# Altium integrated library TI Power Management Step-Down Regulator.IntLib: 559 symbols (part 23 of 35)
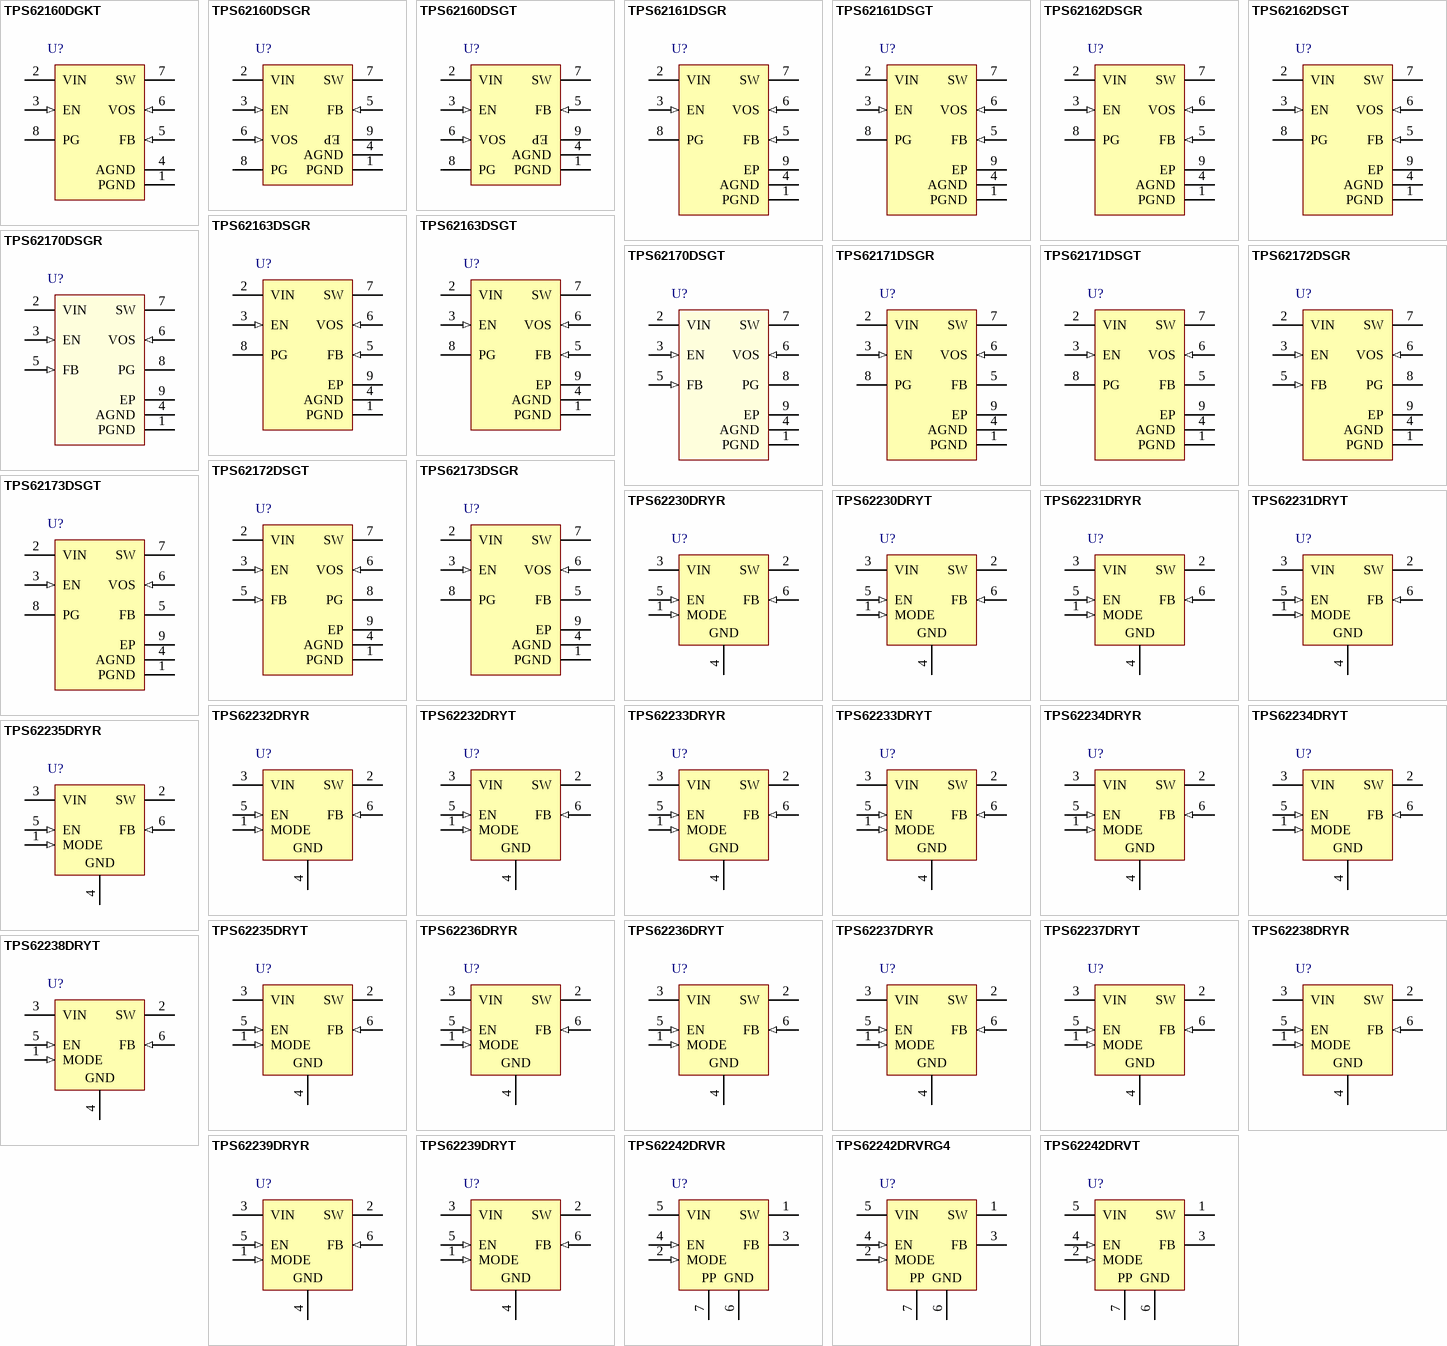
[diagram p41: symbols TPS62160DGKT to TPS62242DRVT]

## TPS62171DSGR
designator U?
Buck Step Down Regulator with 3 to 17 V Input and 1.8 V Output, -40 to 85 degC, 8-Pin WSON (DSG), Green (RoHS & no Sb/Br); Manufacturer: Texas Instruments; PartNumber: TPS62171DSGR; Duty Cycle(Max)(%): 100; Iout(Max)(A): 0.5; Iq(Typ)(mA): 0.017; Preset Vout(V): 1.8; Rating: Catalog; Regulated Outputs(#): 1; SubFamily: Step-Down Regulator; Switch Current Limit(Typ)(A): 1.05; Synchronous Rectification: TRUE; Vin(Max)(V): 17; Vin(Min)(V): 3; DatasheetVersion: SLVSAT8A; PackageVersion: revB, Oct-2010; PackageReference: DSG8-1600X900TP; PackageDescription: 8-Pin Plastic Small Outline No-Lead, 2 x 2 x 0.8 mm Body, 0.5 mm Pitch, Exposed Pad; Supplier 1: Digi-Key; Supplier Part Number 1: TPS62171DSGR-ND; Supplier 2: Newark; Supplier Part Number 2: 74T5564; Supplier 3: Mouser; Supplier Part Number 3: 595-TPS62171DSGR; Eco-Plan: Green (RoHS & no Sb/Br); Topology: Buck; Vout(Max)(V): 1.8; Vout(Min)(V): 1.8; Mounting Technology: Surface Mount; Code_JEDEC: MO-229; ComponentLink1Description: Datasheet; ComponentLink1URL: http://www.ti.com/general/docs/lit/getliterature.tsp?genericPartNumber=TPS62171&fileType=pdf; ComponentLink2Description: Package Specification; ComponentLink2URL: http://www.ti.com/litv/pdf/mpds308a; ComponentLink3Description: URL Link1; ComponentLink3URL: Samples URL:http://www.ti.com/product/tps62171#samples
footprint DSG8-1600X900TP (SON, 8-Leads, Body 2x2mm, Pitch 0.5mm, Thermal Pad 1.6x0.9mm, TI Recommended)
pins: 1 PGND (power) "Power ground", 2 VIN (power) "Supply voltage", 3 EN (in) "Enable input (High = enabled, Low = disabled)", 4 AGND (power) "Analog Ground", 5 FB "Voltage feedback of adjustable version. Connect resistive voltage divider to this pin. It is recommended to connect FB to AGND on fixed output voltage versions for improved thermal performance.", 6 VOS (in) "Output voltage sense pin and connection for the control loop circuitry.", 7 SW (power) "Switch node, which is connected to the internal MOSFET switches. Connect inductor between SW and output capacitor.", 8 PG (hiz) "Output power good (High = VOUT ready, Low = VOUT below nominal regulation) ; open drain (requires pull-up resistor; goes high impedance, when device is switched off)", 9 EP (power) "Must be connected to AGND. Must be soldered to achieve appropriate power dissipation and mechanical reliability."

## TPS62171DSGT
designator U?
Buck Step Down Regulator with 3 to 17 V Input and 1.8 V Output, -40 to 85 degC, 8-Pin WSON (DSG), Green (RoHS & no Sb/Br); Manufacturer: Texas Instruments; PartNumber: TPS62171DSGT; Duty Cycle(Max)(%): 100; Iout(Max)(A): 0.5; Iq(Typ)(mA): 0.017; Preset Vout(V): 1.8; Rating: Catalog; Regulated Outputs(#): 1; SubFamily: Step-Down Regulator; Switch Current Limit(Typ)(A): 1.05; Synchronous Rectification: TRUE; Vin(Max)(V): 17; Vin(Min)(V): 3; DatasheetVersion: SLVSAT8A; PackageVersion: revB, Oct-2010; PackageReference: DSG8-1600X900TP; PackageDescription: 8-Pin Plastic Small Outline No-Lead, 2 x 2 x 0.8 mm Body, 0.5 mm Pitch, Exposed Pad; Supplier 1: Digi-Key; Supplier Part Number 1: 296-29878-2-ND; Supplier 2: Digi-Key; Supplier Part Number 2: 296-29878-1-ND; Supplier 3: Digi-Key; Supplier Part Number 3: 296-29878-6-ND; Supplier 4: Newark; Supplier Part Number 4: 74T5565; Supplier 5: Mouser; Supplier Part Number 5: 595-TPS62171DSGT; Eco-Plan: Green (RoHS & no Sb/Br); Topology: Buck; Vout(Max)(V): 1.8; Vout(Min)(V): 1.8; Mounting Technology: Surface Mount; Code_JEDEC: MO-229; ComponentLink1Description: Datasheet; ComponentLink1URL: http://www.ti.com/general/docs/lit/getliterature.tsp?genericPartNumber=TPS62171&fileType=pdf; ComponentLink2Description: Package Specification; ComponentLink2URL: http://www.ti.com/litv/pdf/mpds308a; ComponentLink3Description: URL Link1; ComponentLink3URL: Samples URL:http://www.ti.com/product/tps54611#samples
footprint DSG8-1600X900TP (SON, 8-Leads, Body 2x2mm, Pitch 0.5mm, Thermal Pad 1.6x0.9mm, TI Recommended)
pins: 1 PGND (power) "Power ground", 2 VIN (power) "Supply voltage", 3 EN (in) "Enable input (High = enabled, Low = disabled)", 4 AGND (power) "Analog Ground", 5 FB "Voltage feedback of adjustable version. Connect resistive voltage divider to this pin. It is recommended to connect FB to AGND on fixed output voltage versions for improved thermal performance.", 6 VOS (in) "Output voltage sense pin and connection for the control loop circuitry.", 7 SW (power) "Switch node, which is connected to the internal MOSFET switches. Connect inductor between SW and output capacitor.", 8 PG (hiz) "Output power good (High = VOUT ready, Low = VOUT below nominal regulation) ; open drain (requires pull-up resistor; goes high impedance, when device is switched off)", 9 EP (power) "Must be connected to AGND. Must be soldered to achieve appropriate power dissipation and mechanical reliability."

## TPS62172DSGR
designator U?
Buck Step Down Regulator with 3 to 17 V Input and 3.3 V Output, -40 to 85 degC, 8-Pin WSON (DSG), Green (RoHS & no Sb/Br); Manufacturer: Texas Instruments; PartNumber: TPS62172DSGR; Duty Cycle(Max)(%): 100; Iout(Max)(A): 0.5; Iq(Typ)(mA): 0.017; Preset Vout(V): 3.3; Rating: Catalog; Regulated Outputs(#): 1; SubFamily: Step-Down Regulator; Switch Current Limit(Typ)(A): 1.05; Synchronous Rectification: TRUE; Vin(Max)(V): 17; Vin(Min)(V): 3; DatasheetVersion: SLVSAT8A; PackageVersion: revB, Oct-2010; PackageReference: DSG8-1600X900TP; PackageDescription: 8-Pin Plastic Small Outline No-Lead, 2 x 2 x 0.8 mm Body, 0.5 mm Pitch, Exposed Pad; Supplier 1: Digi-Key; Supplier Part Number 1: TPS62172DSGR-ND; Supplier 2: Newark; Supplier Part Number 2: 74T5566; Supplier 3: Mouser; Supplier Part Number 3: 595-TPS62172DSGR; Eco-Plan: Green (RoHS & no Sb/Br); Topology: Buck; Vout(Max)(V): 3.3; Vout(Min)(V): 3.3; Mounting Technology: Surface Mount; Code_JEDEC: MO-229; ComponentLink1Description: Datasheet; ComponentLink1URL: http://www.ti.com/general/docs/lit/getliterature.tsp?genericPartNumber=TPS62172&fileType=pdf; ComponentLink2Description: Package Specification; ComponentLink2URL: http://www.ti.com/litv/pdf/mpds308a; ComponentLink3Description: URL Link1; ComponentLink3URL: Samples URL:http://www.ti.com/product/tps62172#samples
footprint DSG8-1600X900TP (SON, 8-Leads, Body 2x2mm, Pitch 0.5mm, Thermal Pad 1.6x0.9mm, TI Recommended)
pins: 1 PGND (power) "Power ground", 2 VIN (power) "Supply voltage", 3 EN (in) "Enable input (High = enabled, Low = disabled)", 4 AGND (power) "Analog Ground", 5 FB (in) "Voltage feedback of adjustable version. Connect resistive voltage divider to this pin. It is recommended to connect FB to AGND on fixed output voltage versions for improved thermal performance.", 6 VOS (in) "Output voltage sense pin and connection for the control loop circuitry.", 7 SW (power) "Switch node, which is connected to the internal MOSFET switches. Connect inductor between SW and output capacitor.", 8 PG (hiz) "Output power good (High = VOUT ready, Low = VOUT below nominal regulation) ; open drain (requires pull-up resistor; goes high impedance, when device is switched off)", 9 EP (power) "Must be connected to AGND. Must be soldered to achieve appropriate power dissipation and mechanical reliability."

## TPS62172DSGT
designator U?
Buck Step Down Regulator with 3 to 17 V Input and 3.3 V Output, -40 to 85 degC, 8-Pin WSON (DSG), Green (RoHS & no Sb/Br); Manufacturer: Texas Instruments; PartNumber: TPS62172DSGT; Duty Cycle(Max)(%): 100; Iout(Max)(A): 0.5; Iq(Typ)(mA): 0.017; Preset Vout(V): 3.3; Rating: Catalog; Regulated Outputs(#): 1; SubFamily: Step-Down Regulator; Switch Current Limit(Typ)(A): 1.05; Synchronous Rectification: TRUE; Vin(Max)(V): 17; Vin(Min)(V): 3; DatasheetVersion: SLVSAT8A; PackageVersion: revB, Oct-2010; PackageReference: DSG8-1600X900TP; PackageDescription: 8-Pin Plastic Small Outline No-Lead, 2 x 2 x 0.8 mm Body, 0.5 mm Pitch, Exposed Pad; Supplier 1: Digi-Key; Supplier Part Number 1: 296-29879-2-ND; Supplier 2: Digi-Key; Supplier Part Number 2: 296-29879-1-ND; Supplier 3: Digi-Key; Supplier Part Number 3: 296-29879-6-ND; Supplier 4: Newark; Supplier Part Number 4: 74T5567; Supplier 5: Mouser; Supplier Part Number 5: 595-TPS62172DSGT; Eco-Plan: Green (RoHS & no Sb/Br); Topology: Buck; Vout(Max)(V): 3.3; Vout(Min)(V): 3.3; Mounting Technology: Surface Mount; Code_JEDEC: MO-229; ComponentLink1Description: Datasheet; ComponentLink1URL: http://www.ti.com/general/docs/lit/getliterature.tsp?genericPartNumber=TPS62172&fileType=pdf; ComponentLink2Description: Package Specification; ComponentLink2URL: http://www.ti.com/litv/pdf/mpds308a; ComponentLink3Description: URL Link1; ComponentLink3URL: Samples URL:http://www.ti.com/product/tps54611#samples
footprint DSG8-1600X900TP (SON, 8-Leads, Body 2x2mm, Pitch 0.5mm, Thermal Pad 1.6x0.9mm, TI Recommended)
pins: 1 PGND (power) "Power ground", 2 VIN (power) "Supply voltage", 3 EN (in) "Enable input (High = enabled, Low = disabled)", 4 AGND (power) "Analog Ground", 5 FB (in) "Voltage feedback of adjustable version. Connect resistive voltage divider to this pin. It is recommended to connect FB to AGND on fixed output voltage versions for improved thermal performance.", 6 VOS (in) "Output voltage sense pin and connection for the control loop circuitry.", 7 SW (power) "Switch node, which is connected to the internal MOSFET switches. Connect inductor between SW and output capacitor.", 8 PG (hiz) "Output power good (High = VOUT ready, Low = VOUT below nominal regulation) ; open drain (requires pull-up resistor; goes high impedance, when device is switched off)", 9 EP (power) "Must be connected to AGND. Must be soldered to achieve appropriate power dissipation and mechanical reliability."

## TPS62173DSGR
designator U?
Buck Step Down Regulator with 3 to 17 V Input and 5 V Output, -40 to 85 degC, 8-Pin WSON (DSG), Green (RoHS & no Sb/Br); Manufacturer: Texas Instruments; PartNumber: TPS62173DSGR; Duty Cycle(Max)(%): 100; Iout(Max)(A): 0.5; Iq(Typ)(mA): 0.017; Preset Vout(V): 5; Rating: Catalog; Regulated Outputs(#): 1; SubFamily: Step-Down Regulator; Switch Current Limit(Typ)(A): 1.05; Synchronous Rectification: TRUE; Vin(Max)(V): 17; Vin(Min)(V): 3; DatasheetVersion: SLVSAT8A; PackageVersion: revB, Oct-2010; PackageReference: DSG8-1600X900TP; PackageDescription: 8-Pin Plastic Small Outline No-Lead, 2 x 2 x 0.8 mm Body, 0.5 mm Pitch, Exposed Pad; Supplier 1: Digi-Key; Supplier Part Number 1: TPS62173DSGR-ND; Supplier 2: Newark; Supplier Part Number 2: 74T5568; Supplier 3: Mouser; Supplier Part Number 3: 595-TPS62173DSGR; Eco-Plan: Green (RoHS & no Sb/Br); Topology: Buck; Vout(Max)(V): 5; Vout(Min)(V): 5; Mounting Technology: Surface Mount; Code_JEDEC: MO-229; ComponentLink1Description: Datasheet; ComponentLink1URL: http://www.ti.com/general/docs/lit/getliterature.tsp?genericPartNumber=TPS62173&fileType=pdf; ComponentLink2Description: Package Specification; ComponentLink2URL: http://www.ti.com/litv/pdf/mpds308a; ComponentLink3Description: URL Link1; ComponentLink3URL: Samples URL:http://www.ti.com/product/tps62173#samples
footprint DSG8-1600X900TP (SON, 8-Leads, Body 2x2mm, Pitch 0.5mm, Thermal Pad 1.6x0.9mm, TI Recommended)
pins: 1 PGND (power) "Power ground", 2 VIN (power) "Supply voltage", 3 EN (in) "Enable input (High = enabled, Low = disabled)", 4 AGND (power) "Analog Ground", 5 FB "Voltage feedback of adjustable version. Connect resistive voltage divider to this pin. It is recommended to connect FB to AGND on fixed output voltage versions for improved thermal performance.", 6 VOS (in) "Output voltage sense pin and connection for the control loop circuitry.", 7 SW (power) "Switch node, which is connected to the internal MOSFET switches. Connect inductor between SW and output capacitor.", 8 PG (hiz) "Output power good (High = VOUT ready, Low = VOUT below nominal regulation) ; open drain (requires pull-up resistor; goes high impedance, when device is switched off)", 9 EP (power) "Must be connected to AGND. Must be soldered to achieve appropriate power dissipation and mechanical reliability."

## TPS62173DSGT
designator U?
Buck Step Down Regulator with 3 to 17 V Input and 5 V Output, -40 to 85 degC, 8-Pin WSON (DSG), Green (RoHS & no Sb/Br); Manufacturer: Texas Instruments; PartNumber: TPS62173DSGT; Duty Cycle(Max)(%): 100; Iout(Max)(A): 0.5; Iq(Typ)(mA): 0.017; Preset Vout(V): 5; Rating: Catalog; Regulated Outputs(#): 1; SubFamily: Step-Down Regulator; Switch Current Limit(Typ)(A): 1.05; Synchronous Rectification: TRUE; Vin(Max)(V): 17; Vin(Min)(V): 3; DatasheetVersion: SLVSAT8A; PackageVersion: revB, Oct-2010; PackageReference: DSG8-1600X900TP; PackageDescription: 8-Pin Plastic Small Outline No-Lead, 2 x 2 x 0.8 mm Body, 0.5 mm Pitch, Exposed Pad; Supplier 1: Digi-Key; Supplier Part Number 1: 296-29866-2-ND; Supplier 2: Digi-Key; Supplier Part Number 2: 296-29866-1-ND; Supplier 3: Digi-Key; Supplier Part Number 3: 296-29866-6-ND; Supplier 4: Newark; Supplier Part Number 4: 74T5569; Supplier 5: Mouser; Supplier Part Number 5: 595-TPS62173DSGT; Eco-Plan: Green (RoHS & no Sb/Br); Topology: Buck; Vout(Max)(V): 5; Vout(Min)(V): 5; Mounting Technology: Surface Mount; Code_JEDEC: MO-229; ComponentLink1Description: Datasheet; ComponentLink1URL: http://www.ti.com/general/docs/lit/getliterature.tsp?genericPartNumber=TPS62173&fileType=pdf; ComponentLink2Description: Package Specification; ComponentLink2URL: http://www.ti.com/litv/pdf/mpds308a; ComponentLink3Description: URL Link1; ComponentLink3URL: Samples URL:http://www.ti.com/product/tps54611#samples
footprint DSG8-1600X900TP (SON, 8-Leads, Body 2x2mm, Pitch 0.5mm, Thermal Pad 1.6x0.9mm, TI Recommended)
pins: 1 PGND (power) "Power ground", 2 VIN (power) "Supply voltage", 3 EN (in) "Enable input (High = enabled, Low = disabled)", 4 AGND (power) "Analog Ground", 5 FB "Voltage feedback of adjustable version. Connect resistive voltage divider to this pin. It is recommended to connect FB to AGND on fixed output voltage versions for improved thermal performance.", 6 VOS (in) "Output voltage sense pin and connection for the control loop circuitry.", 7 SW (power) "Switch node, which is connected to the internal MOSFET switches. Connect inductor between SW and output capacitor.", 8 PG (hiz) "Output power good (High = VOUT ready, Low = VOUT below nominal regulation) ; open drain (requires pull-up resistor; goes high impedance, when device is switched off)", 9 EP (power) "Must be connected to AGND. Must be soldered to achieve appropriate power dissipation and mechanical reliability."

## TPS62230DRYR
designator U?
Buck Step Down Regulator with 2.05 to 6 V Input and 2.5 V Output, -40 to 85 degC, 6-Pin SON (DRY), Green (RoHS & no Sb/Br); Manufacturer: Texas Instruments; PartNumber: TPS62230DRYR; Duty Cycle(Max)(%): 100; Iout(Max)(A): 0.5; Iq(Typ)(mA): 0.022; Preset Vout(V): 2.5; Rating: Catalog; Regulated Outputs(#): 1; SubFamily: Step-Down Regulator; Switch Current Limit(Typ)(A): 0.84; Synchronous Rectification: TRUE; Vin(Max)(V): 6; Vin(Min)(V): 2.05; DatasheetVersion: SLVS941E; PackageVersion: revF, Dec-2011; PackageReference: DRY6; PackageDescription: 6-Pin Plastic Small Outline No-Lead, 1 x 1.45 x 0.6 mm Body, 0.5 mm Pitch; Supplier 1: Digi-Key; Supplier Part Number 1: TPS62230DRYR-ND; Supplier 2: Newark; Supplier Part Number 2: 09R6675; Supplier 3: Mouser; Supplier Part Number 3: 595-TPS62230DRYR; Eco-Plan: Green (RoHS & no Sb/Br); Topology: Buck; Vout(Max)(V): 2.5; Vout(Min)(V): 2.5; Mounting Technology: Surface Mount; ComponentLink1Description: Datasheet; ComponentLink1URL: http://www.ti.com/general/docs/lit/getliterature.tsp?genericPartNumber=TPS62230&fileType=pdf; ComponentLink2Description: Package Specification; ComponentLink2URL: http://www.ti.com/litv/pdf/mpds221e; ComponentLink3Description: URL Link1; ComponentLink3URL: Samples URL:http://www.ti.com/product/tps62230#samples
footprint DRY6 (PSON, 6-Leads, Body 1x1.45mm, Pitch 0.5mm, TI Recommended)
pins: 1 MODE (in) "MODE pin = high forces the device to operate in PWM mode. Mode = low enables the Power Save Mode with automatic transition from PFM (Pulse frequency mode) to PWM (pulse width modulation) mode.", 2 SW (power) "This is the switch pin and is connected to the internal MOSFET switches. Connect the inductor to this terminal", 3 VIN (power) "VIN power supply pin.", 4 GND (power), 5 EN (in) "This is the enable pin of the device. Pulling this pin to low forces the device into shutdown mode. Pulling this pin to high enables the device. This pin must be terminated.", 6 FB (in) "Feedback Pin for the internal regulation loop. Connect this pin directly to the output capacitor."

## TPS62230DRYT
designator U?
Buck Step Down Regulator with 2.05 to 6 V Input and 2.5 V Output, -40 to 85 degC, 6-Pin SON (DRY), Green (RoHS & no Sb/Br); Manufacturer: Texas Instruments; PartNumber: TPS62230DRYT; Duty Cycle(Max)(%): 100; Iout(Max)(A): 0.5; Iq(Typ)(mA): 0.022; Preset Vout(V): 2.5; Rating: Catalog; Regulated Outputs(#): 1; SubFamily: Step-Down Regulator; Switch Current Limit(Typ)(A): 0.84; Synchronous Rectification: TRUE; Vin(Max)(V): 6; Vin(Min)(V): 2.05; DatasheetVersion: SLVS941E; PackageVersion: revF, Dec-2011; PackageReference: DRY6; PackageDescription: 6-Pin Plastic Small Outline No-Lead, 1 x 1.45 x 0.6 mm Body, 0.5 mm Pitch; Supplier 1: Digi-Key; Supplier Part Number 1: 296-24484-2-ND; Supplier 2: Digi-Key; Supplier Part Number 2: 296-24484-1-ND; Supplier 3: Digi-Key; Supplier Part Number 3: 296-24484-6-ND; Supplier 4: Farnell; Supplier Part Number 4: 1735596; Supplier 5: Newark; Supplier Part Number 5: 07R8107; Supplier 6: Mouser; Supplier Part Number 6: 595-TPS62230DRYT; Eco-Plan: Green (RoHS & no Sb/Br); Topology: Buck; Vout(Max)(V): 2.5; Vout(Min)(V): 2.5; Mounting Technology: Surface Mount; ComponentLink1Description: Datasheet; ComponentLink1URL: http://www.ti.com/general/docs/lit/getliterature.tsp?genericPartNumber=TPS62230&fileType=pdf; ComponentLink2Description: Package Specification; ComponentLink2URL: http://www.ti.com/litv/pdf/mpds221e; ComponentLink3Description: URL Link1; ComponentLink3URL: Samples URL:http://www.ti.com/product/tps62230#samples
footprint DRY6 (PSON, 6-Leads, Body 1x1.45mm, Pitch 0.5mm, TI Recommended)
pins: 1 MODE (in) "MODE pin = high forces the device to operate in PWM mode. Mode = low enables the Power Save Mode with automatic transition from PFM (Pulse frequency mode) to PWM (pulse width modulation) mode.", 2 SW (power) "This is the switch pin and is connected to the internal MOSFET switches. Connect the inductor to this terminal", 3 VIN (power) "VIN power supply pin.", 4 GND (power), 5 EN (in) "This is the enable pin of the device. Pulling this pin to low forces the device into shutdown mode. Pulling this pin to high enables the device. This pin must be terminated.", 6 FB (in) "Feedback Pin for the internal regulation loop. Connect this pin directly to the output capacitor."

## TPS62231DRYR
designator U?
Buck Step Down Regulator with 2.05 to 6 V Input and 1.8 V Output, -40 to 85 degC, 6-Pin SON (DRY), Green (RoHS & no Sb/Br); Manufacturer: Texas Instruments; PartNumber: TPS62231DRYR; Duty Cycle(Max)(%): 100; Iout(Max)(A): 0.5; Iq(Typ)(mA): 0.022; Preset Vout(V): 1.8; Rating: Catalog; Regulated Outputs(#): 1; SubFamily: Step-Down Regulator; Switch Current Limit(Typ)(A): 0.84; Synchronous Rectification: TRUE; Vin(Max)(V): 6; Vin(Min)(V): 2.05; DatasheetVersion: SLVS941E; PackageVersion: revF, Dec-2011; PackageReference: DRY6; PackageDescription: 6-Pin Plastic Small Outline No-Lead, 1 x 1.45 x 0.6 mm Body, 0.5 mm Pitch; Supplier 1: Digi-Key; Supplier Part Number 1: TPS62231DRYR-ND; Supplier 2: Newark; Supplier Part Number 2: 09R6676; Supplier 3: Mouser; Supplier Part Number 3: 595-TPS62231DRYR; Eco-Plan: Green (RoHS & no Sb/Br); Topology: Buck; Vout(Max)(V): 1.8; Vout(Min)(V): 1.8; Mounting Technology: Surface Mount; ComponentLink1Description: Datasheet; ComponentLink1URL: http://www.ti.com/general/docs/lit/getliterature.tsp?genericPartNumber=TPS62231&fileType=pdf; ComponentLink2Description: Package Specification; ComponentLink2URL: http://www.ti.com/litv/pdf/mpds221e; ComponentLink3Description: URL Link1; ComponentLink3URL: Samples URL:http://www.ti.com/product/tps62231#samples
footprint DRY6 (PSON, 6-Leads, Body 1x1.45mm, Pitch 0.5mm, TI Recommended)
pins: 1 MODE (in) "MODE pin = high forces the device to operate in PWM mode. Mode = low enables the Power Save Mode with automatic transition from PFM (Pulse frequency mode) to PWM (pulse width modulation) mode.", 2 SW (power) "This is the switch pin and is connected to the internal MOSFET switches. Connect the inductor to this terminal.", 3 VIN (power) "VIN power supply pin.", 4 GND (power) "GND supply pin", 5 EN (in) "This is the enable pin of the device. Pulling this pin to low forces the device into shutdown mode. Pulling this pin to high enables the device. This pin must be terminated.", 6 FB (in) "Feedback Pin for the internal regulation loop. Connect this pin directly to the output capacitor."

## TPS62231DRYT
designator U?
Buck Step Down Regulator with 2.05 to 6 V Input and 1.8 V Output, -40 to 85 degC, 6-Pin SON (DRY), Green (RoHS & no Sb/Br); Manufacturer: Texas Instruments; PartNumber: TPS62231DRYT; Duty Cycle(Max)(%): 100; Iout(Max)(A): 0.5; Iq(Typ)(mA): 0.022; Preset Vout(V): 1.8; Rating: Catalog; Regulated Outputs(#): 1; SubFamily: Step-Down Regulator; Switch Current Limit(Typ)(A): 0.84; Synchronous Rectification: TRUE; Vin(Max)(V): 6; Vin(Min)(V): 2.05; DatasheetVersion: SLVS941E; PackageVersion: revF, Dec-2011; PackageReference: DRY6; PackageDescription: 6-Pin Plastic Small Outline No-Lead, 1 x 1.45 x 0.6 mm Body, 0.5 mm Pitch; Supplier 1: Digi-Key; Supplier Part Number 1: 296-24485-2-ND; Supplier 2: Digi-Key; Supplier Part Number 2: 296-24485-1-ND; Supplier 3: Digi-Key; Supplier Part Number 3: 296-24485-6-ND; Supplier 4: Farnell; Supplier Part Number 4: 1735598; Supplier 5: Newark; Supplier Part Number 5: 07R8108; Supplier 6: Mouser; Supplier Part Number 6: 595-TPS62231DRYT; Eco-Plan: Green (RoHS & no Sb/Br); Topology: Buck; Vout(Max)(V): 1.8; Vout(Min)(V): 1.8; Mounting Technology: Surface Mount; ComponentLink1Description: Datasheet; ComponentLink1URL: http://www.ti.com/general/docs/lit/getliterature.tsp?genericPartNumber=TPS62231&fileType=pdf; ComponentLink2Description: Package Specification; ComponentLink2URL: http://www.ti.com/litv/pdf/mpds221e; ComponentLink3Description: URL Link1; ComponentLink3URL: Samples URL:http://www.ti.com/product/tps62231#samples
footprint DRY6 (PSON, 6-Leads, Body 1x1.45mm, Pitch 0.5mm, TI Recommended)
pins: 1 MODE (in) "MODE pin = high forces the device to operate in PWM mode. Mode = low enables the Power Save Mode with automatic transition from PFM (Pulse frequency mode) to PWM (pulse width modulation) mode.", 2 SW (power) "This is the switch pin and is connected to the internal MOSFET switches. Connect the inductor to this terminal.", 3 VIN (power) "VIN power supply pin.", 4 GND (power) "GND supply pin", 5 EN (in) "This is the enable pin of the device. Pulling this pin to low forces the device into shutdown mode. Pulling this pin to high enables the device. This pin must be terminated.", 6 FB (in) "Feedback Pin for the internal regulation loop. Connect this pin directly to the output capacitor."

## TPS62232DRYR
designator U?
Buck Step Down Regulator with 2.05 to 6 V Input and 1.2 V Output, -40 to 85 degC, 6-Pin SON (DRY), Green (RoHS & no Sb/Br); Manufacturer: Texas Instruments; PartNumber: TPS62232DRYR; Duty Cycle(Max)(%): 100; Iout(Max)(A): 0.5; Iq(Typ)(mA): 0.022; Preset Vout(V): 1.2; Rating: Catalog; Regulated Outputs(#): 1; SubFamily: Step-Down Regulator; Switch Current Limit(Typ)(A): 0.84; Synchronous Rectification: TRUE; Vin(Max)(V): 6; Vin(Min)(V): 2.05; DatasheetVersion: SLVS941E; PackageVersion: revF, Dec-2011; PackageReference: DRY6; PackageDescription: 6-Pin Plastic Small Outline No-Lead, 1 x 1.45 x 0.6 mm Body, 0.5 mm Pitch; Supplier 1: Digi-Key; Supplier Part Number 1: TPS62232DRYR-ND; Supplier 2: Newark; Supplier Part Number 2: 09R6677; Supplier 3: Mouser; Supplier Part Number 3: 595-TPS62232DRYR; Eco-Plan: Green (RoHS & no Sb/Br); Topology: Buck; Vout(Max)(V): 1.2; Vout(Min)(V): 1.2; Mounting Technology: Surface Mount; ComponentLink1Description: Datasheet; ComponentLink1URL: http://www.ti.com/general/docs/lit/getliterature.tsp?genericPartNumber=TPS62232&fileType=pdf; ComponentLink2Description: Package Specification; ComponentLink2URL: http://www.ti.com/litv/pdf/mpds221e; ComponentLink3Description: URL Link1; ComponentLink3URL: Samples URL:http://www.ti.com/product/tps62232#samples
footprint DRY6 (PSON, 6-Leads, Body 1x1.45mm, Pitch 0.5mm, TI Recommended)
pins: 1 MODE (in) "MODE pin = high forces the device to operate in PWM mode. Mode = low enables the Power Save Mode with automatic transition from PFM (Pulse frequency mode) to PWM (pulse width modulation) mode.", 2 SW (power) "This is the switch pin and is connected to the internal MOSFET switches. Connect the inductor to this terminal", 3 VIN (power) "VIN power supply pin.", 4 GND (power) "GND supply pin", 5 EN (in) "This is the enable pin of the device. Pulling this pin to low forces the device into shutdown mode. Pulling this pin to high enables the device. This pin must be terminated.", 6 FB (in) "Feedback Pin for the internal regulation loop. Connect this pin directly to the output capacitor."

## TPS62232DRYT
designator U?
Buck Step Down Regulator with 2.05 to 6 V Input and 1.2 V Output, -40 to 85 degC, 6-Pin SON (DRY), Green (RoHS & no Sb/Br); Manufacturer: Texas Instruments; PartNumber: TPS62232DRYT; Duty Cycle(Max)(%): 100; Iout(Max)(A): 0.5; Iq(Typ)(mA): 0.022; Preset Vout(V): 1.2; Rating: Catalog; Regulated Outputs(#): 1; SubFamily: Step-Down Regulator; Switch Current Limit(Typ)(A): 0.84; Synchronous Rectification: TRUE; Vin(Max)(V): 6; Vin(Min)(V): 2.05; DatasheetVersion: SLVS941E; PackageVersion: revF, Dec-2011; PackageReference: DRY6; PackageDescription: 6-Pin Plastic Small Outline No-Lead, 1 x 1.45 x 0.6 mm Body, 0.5 mm Pitch; Supplier 1: Digi-Key; Supplier Part Number 1: 296-24486-2-ND; Supplier 2: Digi-Key; Supplier Part Number 2: 296-24486-1-ND; Supplier 3: Digi-Key; Supplier Part Number 3: 296-24486-6-ND; Supplier 4: Farnell; Supplier Part Number 4: 1735599; Supplier 5: Newark; Supplier Part Number 5: 35R2578; Supplier 6: Mouser; Supplier Part Number 6: 595-TPS62232DRYT; Eco-Plan: Green (RoHS & no Sb/Br); Topology: Buck; Vout(Max)(V): 1.2; Vout(Min)(V): 1.2; Mounting Technology: Surface Mount; ComponentLink1Description: Datasheet; ComponentLink1URL: http://www.ti.com/general/docs/lit/getliterature.tsp?genericPartNumber=TPS62232&fileType=pdf; ComponentLink2Description: Package Specification; ComponentLink2URL: http://www.ti.com/litv/pdf/mpds221e; ComponentLink3Description: URL Link1; ComponentLink3URL: Samples URL:http://www.ti.com/product/tps62232#samples
footprint DRY6 (PSON, 6-Leads, Body 1x1.45mm, Pitch 0.5mm, TI Recommended)
pins: 1 MODE (in) "MODE pin = high forces the device to operate in PWM mode. Mode = low enables the Power Save Mode with automatic transition from PFM (Pulse frequency mode) to PWM (pulse width modulation) mode.", 2 SW (power) "This is the switch pin and is connected to the internal MOSFET switches. Connect the inductor to this terminal", 3 VIN (power) "VIN power supply pin.", 4 GND (power) "GND supply pin", 5 EN (in) "This is the enable pin of the device. Pulling this pin to low forces the device into shutdown mode. Pulling this pin to high enables the device. This pin must be terminated.", 6 FB (in) "Feedback Pin for the internal regulation loop. Connect this pin directly to the output capacitor."

## TPS62233DRYR
designator U?
Buck Step Down Regulator with 2.05 to 6 V Input and 3 V Output, -40 to 85 degC, 6-Pin SON (DRY), Green (RoHS & no Sb/Br); Manufacturer: Texas Instruments; PartNumber: TPS62233DRYR; Duty Cycle(Max)(%): 100; Iout(Max)(A): 0.5; Iq(Typ)(mA): 0.022; Preset Vout(V): 3; Rating: Catalog; Regulated Outputs(#): 1; SubFamily: Step-Down Regulator; Switch Current Limit(Typ)(A): 0.84; Synchronous Rectification: False; Vin(Max)(V): 6; Vin(Min)(V): 2.05; DatasheetVersion: SLVS941E; PackageVersion: revF, Dec-2011; PackageReference: DRY6; PackageDescription: 6-Pin Plastic Small Outline No-Lead, 1 x 1.45 x 0.6 mm Body, 0.5 mm Pitch; Supplier 1: Digi-Key; Supplier Part Number 1: TPS62233DRYR-ND; Supplier 2: Newark; Supplier Part Number 2: 55R7612; Supplier 3: Mouser; Supplier Part Number 3: 595-TPS62233DRYR; Eco-Plan: Green (RoHS & no Sb/Br); Topology: Buck; Vout(Max)(V): 3; Vout(Min)(V): 3; Mounting Technology: Surface Mount; ComponentLink1Description: Datasheet; ComponentLink1URL: http://www.ti.com/general/docs/lit/getliterature.tsp?genericPartNumber=TPS62233&fileType=pdf; ComponentLink2Description: Package Specification; ComponentLink2URL: http://www.ti.com/litv/pdf/mpds221e; ComponentLink3Description: URL Link1; ComponentLink3URL: Samples URL:http://www.ti.com/product/tps62233#samples
footprint DRY6 (PSON, 6-Leads, Body 1x1.45mm, Pitch 0.5mm, TI Recommended)
pins: 1 MODE (in) "MODE pin = high forces the device to operate in PWM mode. Mode = low enables the Power Save Modewith automatic transition from PFM (Pulse frequency mode) to PWM (pulse width modulation) mode.", 2 SW (power) "This is the switch pin and is connected to the internal MOSFET switches. Connect the inductor to thisterminal.", 3 VIN (power) "VIN power supply pin.", 4 GND (power) "GND supply pin.", 5 EN (in) "This is the enable pin of the device. Pulling this pin to low forces the device into shutdown mode. Pullingthis pin to high enables the device. This pin must be terminated.", 6 FB (in) "Feedback Pin for the internal regulation loop. Connect this pin directly to the output capacitor."

## TPS62233DRYT
designator U?
Buck Step Down Regulator with 2.05 to 6 V Input and 3 V Output, -40 to 85 degC, 6-Pin SON (DRY), Green (RoHS & no Sb/Br); Manufacturer: Texas Instruments; PartNumber: TPS62233DRYT; Duty Cycle(Max)(%): 100; Iout(Max)(A): 0.5; Iq(Typ)(mA): 0.022; Preset Vout(V): 3; Rating: Catalog; Regulated Outputs(#): 1; SubFamily: Step-Down Regulator; Switch Current Limit(Typ)(A): 0.84; Synchronous Rectification: False; Vin(Max)(V): 6; Vin(Min)(V): 2.05; DatasheetVersion: SLVS941E; PackageVersion: revF, Dec-2011; PackageReference: DRY6; PackageDescription: 6-Pin Plastic Small Outline No-Lead, 1 x 1.45 x 0.6 mm Body, 0.5 mm Pitch; Supplier 1: Digi-Key; Supplier Part Number 1: 296-25262-2-ND; Supplier 2: Digi-Key; Supplier Part Number 2: 296-25262-1-ND; Supplier 3: Digi-Key; Supplier Part Number 3: 296-25262-6-ND; Supplier 4: Mouser; Supplier Part Number 4: 595-TPS62233DRYT; Eco-Plan: Green (RoHS & no Sb/Br); Topology: Buck; Vout(Max)(V): 3; Vout(Min)(V): 3; Mounting Technology: Surface Mount; ComponentLink1Description: Datasheet; ComponentLink1URL: http://www.ti.com/general/docs/lit/getliterature.tsp?genericPartNumber=TPS62233&fileType=pdf; ComponentLink2Description: Package Specification; ComponentLink2URL: http://www.ti.com/litv/pdf/mpds221e; ComponentLink3Description: URL Link1; ComponentLink3URL: Samples URL:http://www.ti.com/product/tps62233#samples
footprint DRY6 (PSON, 6-Leads, Body 1x1.45mm, Pitch 0.5mm, TI Recommended)
pins: 1 MODE (in) "MODE pin = high forces the device to operate in PWM mode. Mode = low enables the Power Save Modewith automatic transition from PFM (Pulse frequency mode) to PWM (pulse width modulation) mode.", 2 SW (power) "This is the switch pin and is connected to the internal MOSFET switches. Connect the inductor to thisterminal.", 3 VIN (power) "VIN power supply pin.", 4 GND (power) "GND supply pin.", 5 EN (in) "This is the enable pin of the device. Pulling this pin to low forces the device into shutdown mode. Pullingthis pin to high enables the device. This pin must be terminated.", 6 FB (in) "Feedback Pin for the internal regulation loop. Connect this pin directly to the output capacitor."

## TPS62234DRYR
designator U?
Buck Step Down Regulator with 2.05 to 6 V Input and 2.1 V Output, -40 to 85 degC, 6-Pin SON (DRY), Green (RoHS & no Sb/Br); Manufacturer: Texas Instruments; PartNumber: TPS62234DRYR; Duty Cycle(Max)(%): 100; Iout(Max)(A): 0.5; Iq(Typ)(mA): 0.022; Preset Vout(V): 2.1; Rating: Catalog; Regulated Outputs(#): 1; SubFamily: Step-Down Regulator; Switch Current Limit(Typ)(A): 0.84; Synchronous Rectification: TRUE; Vin(Max)(V): 6; Vin(Min)(V): 2.05; DatasheetVersion: SLVS941E; PackageVersion: revF, Dec-2011; PackageReference: DRY6; PackageDescription: 6-Pin Plastic Small Outline No-Lead, 1 x 1.45 x 0.6 mm Body, 0.5 mm Pitch; Supplier 1: Digi-Key; Supplier Part Number 1: TPS62234DRYR-ND; Supplier 2: Mouser; Supplier Part Number 2: 595-TPS62234DRYR; Eco-Plan: Green (RoHS & no Sb/Br); Topology: Buck; Vout(Max)(V): 2.1; Vout(Min)(V): 2.1; Mounting Technology: Surface Mount; ComponentLink1Description: Datasheet; ComponentLink1URL: http://www.ti.com/general/docs/lit/getliterature.tsp?genericPartNumber=TPS62234&fileType=pdf; ComponentLink2Description: Package Specification; ComponentLink2URL: http://www.ti.com/litv/pdf/mpds221e; ComponentLink3Description: URL Link1; ComponentLink3URL: Samples URL:http://www.ti.com/product/tps62234#samples
footprint DRY6 (PSON, 6-Leads, Body 1x1.45mm, Pitch 0.5mm, TI Recommended)
pins: 1 MODE (in) "MODE pin = high forces the device to operate in PWM mode. Mode = low enables the Power Save Mode with automatic transition from PFM (Pulse frequency mode) to PWM (pulse width modulation) mode.", 2 SW (power) "This is the switch pin and is connected to the internal MOSFET switches. Connect the inductor to this terminal", 3 VIN (power) "VIN power supply pin.", 4 GND (power) "GND supply pin", 5 EN (in) "This is the enable pin of the device. Pulling this pin to low forces the device into shutdown mode. Pulling this pin to high enables the device. This pin must be terminated.", 6 FB (in) "Feedback Pin for the internal regulation loop. Connect this pin directly to the output capacitor."

## TPS62234DRYT
designator U?
Buck Step Down Regulator with 2.05 to 6 V Input and 2.1 V Output, -40 to 85 degC, 6-Pin SON (DRY), Green (RoHS & no Sb/Br); Manufacturer: Texas Instruments; PartNumber: TPS62234DRYT; Duty Cycle(Max)(%): 100; Iout(Max)(A): 0.5; Iq(Typ)(mA): 0.022; Preset Vout(V): 2.1; Rating: Catalog; Regulated Outputs(#): 1; SubFamily: Step-Down Regulator; Switch Current Limit(Typ)(A): 0.84; Synchronous Rectification: TRUE; Vin(Max)(V): 6; Vin(Min)(V): 2.05; DatasheetVersion: SLVS941E; PackageVersion: revF, Dec-2011; PackageReference: DRY6; PackageDescription: 6-Pin Plastic Small Outline No-Lead, 1 x 1.45 x 0.6 mm Body, 0.5 mm Pitch; Supplier 1: Digi-Key; Supplier Part Number 1: 296-25324-2-ND; Supplier 2: Digi-Key; Supplier Part Number 2: 296-25324-1-ND; Supplier 3: Digi-Key; Supplier Part Number 3: 296-25324-6-ND; Supplier 4: Mouser; Supplier Part Number 4: 595-TPS62234DRYT; Eco-Plan: Green (RoHS & no Sb/Br); Topology: Buck; Vout(Max)(V): 2.1; Vout(Min)(V): 2.1; Mounting Technology: Surface Mount; ComponentLink1Description: Datasheet; ComponentLink1URL: http://www.ti.com/general/docs/lit/getliterature.tsp?genericPartNumber=TPS62234&fileType=pdf; ComponentLink2Description: Package Specification; ComponentLink2URL: http://www.ti.com/litv/pdf/mpds221e; ComponentLink3Description: URL Link1; ComponentLink3URL: Samples URL:http://www.ti.com/product/tps62234#samples
footprint DRY6 (PSON, 6-Leads, Body 1x1.45mm, Pitch 0.5mm, TI Recommended)
pins: 1 MODE (in) "MODE pin = high forces the device to operate in PWM mode. Mode = low enables the Power Save Mode with automatic transition from PFM (Pulse frequency mode) to PWM (pulse width modulation) mode.", 2 SW (power) "This is the switch pin and is connected to the internal MOSFET switches. Connect the inductor to this terminal", 3 VIN (power) "VIN power supply pin.", 4 GND (power) "GND supply pin", 5 EN (in) "This is the enable pin of the device. Pulling this pin to low forces the device into shutdown mode. Pulling this pin to high enables the device. This pin must be terminated.", 6 FB (in) "Feedback Pin for the internal regulation loop. Connect this pin directly to the output capacitor."

## TPS62235DRYR
designator U?
Buck Step Down Regulator with 2.05 to 6 V Input and 1.2 V Output, -40 to 85 degC, 6-Pin SON (DRY), Green (RoHS & no Sb/Br); Manufacturer: Texas Instruments; PartNumber: TPS62235DRYR; Duty Cycle(Max)(%): 100; Iout(Max)(A): 0.5; Iq(Typ)(mA): 0.022; Preset Vout(V): 1.2; Rating: Catalog; Regulated Outputs(#): 1; SubFamily: Step-Down Regulator; Switch Current Limit(Typ)(A): 0.84; Vin(Max)(V): 6; Vin(Min)(V): 2.05; DatasheetVersion: SLVS941E; PackageVersion: revF, Dec-2011; PackageReference: DRY6; PackageDescription: 6-Pin Plastic Small Outline No-Lead, 1 x 1.45 x 0.6 mm Body, 0.5 mm Pitch; Supplier 1: Digi-Key; Supplier Part Number 1: TPS62235DRYR-ND; Supplier 2: Newark; Supplier Part Number 2: 64R0763; Supplier 3: Mouser; Supplier Part Number 3: 595-TPS62235DRYR; Eco-Plan: Green (RoHS & no Sb/Br); Topology: Buck; Vout(Max)(V): 1.2; Vout(Min)(V): 1.2; Mounting Technology: Surface Mount; ComponentLink1Description: Datasheet; ComponentLink1URL: http://www.ti.com/general/docs/lit/getliterature.tsp?genericPartNumber=TPS62235&fileType=pdf; ComponentLink2Description: Package Specification; ComponentLink2URL: http://www.ti.com/litv/pdf/mpds221e; ComponentLink3Description: URL Link1; ComponentLink3URL: Samples URL:http://www.ti.com/product/tps62235#samples
footprint DRY6 (PSON, 6-Leads, Body 1x1.45mm, Pitch 0.5mm, TI Recommended)
pins: 1 MODE (in) "MODE pin = high forces the device to operate in PWM mode. Mode = low enables the Power Save Mode with automatic transition from PFM (Pulse frequency mode) to PWM (pulse width modulation) mode.", 2 SW (power) "This is the switch pin and is connected to the internal MOSFET switches. Connect the inductor to this terminal", 3 VIN (power) "VIN power supply pin.", 4 GND (power) "GND supply pin", 5 EN (in) "This is the enable pin of the device. Pulling this pin to low forces the device into shutdown mode. Pulling this pin to high enables the device. This pin must be terminated.", 6 FB (in) "Feedback Pin for the internal regulation loop. Connect this pin directly to the output capacitor."

## TPS62235DRYT
designator U?
Buck Step Down Regulator with 2.05 to 6 V Input and 1.2 V Output, -40 to 85 degC, 6-Pin SON (DRY), Green (RoHS & no Sb/Br); Manufacturer: Texas Instruments; PartNumber: TPS62235DRYT; Duty Cycle(Max)(%): 100; Iout(Max)(A): 0.5; Iq(Typ)(mA): 0.022; Preset Vout(V): 1.2; Rating: Catalog; Regulated Outputs(#): 1; SubFamily: Step-Down Regulator; Switch Current Limit(Typ)(A): 0.84; Vin(Max)(V): 6; Vin(Min)(V): 2.05; DatasheetVersion: SLVS941E; PackageVersion: revF, Dec-2011; PackageReference: DRY6; PackageDescription: 6-Pin Plastic Small Outline No-Lead, 1 x 1.45 x 0.6 mm Body, 0.5 mm Pitch; Supplier 1: Digi-Key; Supplier Part Number 1: 296-25628-2-ND; Supplier 2: Digi-Key; Supplier Part Number 2: 296-25628-1-ND; Supplier 3: Digi-Key; Supplier Part Number 3: 296-25628-6-ND; Supplier 4: Mouser; Supplier Part Number 4: 595-TPS62235DRYT; Eco-Plan: Green (RoHS & no Sb/Br); Topology: Buck; Vout(Max)(V): 1.2; Vout(Min)(V): 1.2; Mounting Technology: Surface Mount; ComponentLink1Description: Datasheet; ComponentLink1URL: http://www.ti.com/general/docs/lit/getliterature.tsp?genericPartNumber=TPS62235&fileType=pdf; ComponentLink2Description: Package Specification; ComponentLink2URL: http://www.ti.com/litv/pdf/mpds221e; ComponentLink3Description: URL Link1; ComponentLink3URL: Samples URL:http://www.ti.com/product/tps54611#samples
footprint DRY6 (PSON, 6-Leads, Body 1x1.45mm, Pitch 0.5mm, TI Recommended)
pins: 1 MODE (in) "MODE pin = high forces the device to operate in PWM mode. Mode = low enables the Power Save Mode with automatic transition from PFM (Pulse frequency mode) to PWM (pulse width modulation) mode.", 2 SW (power) "This is the switch pin and is connected to the internal MOSFET switches. Connect the inductor to this terminal", 3 VIN (power) "VIN power supply pin.", 4 GND (power) "GND supply pin", 5 EN (in) "This is the enable pin of the device. Pulling this pin to low forces the device into shutdown mode. Pulling this pin to high enables the device. This pin must be terminated.", 6 FB (in) "Feedback Pin for the internal regulation loop. Connect this pin directly to the output capacitor."

## TPS62236DRYR
designator U?
Buck Step Down Regulator with 2.05 to 6 V Input and 1.85 V Output, -40 to 85 degC, 6-Pin SON (DRY), Green (RoHS & no Sb/Br); Manufacturer: Texas Instruments; PartNumber: TPS62236DRYR; Duty Cycle(Max)(%): 100; Iout(Max)(A): 0.5; Iq(Typ)(mA): 0.022; Preset Vout(V): 1.85; Rating: Catalog; Regulated Outputs(#): 1; SubFamily: Step-Down Regulator; Switch Current Limit(Typ)(A): 0.84; Vin(Max)(V): 6; Vin(Min)(V): 2.05; DatasheetVersion: SLVS941E; PackageVersion: revF, Dec-2011; PackageReference: DRY6; PackageDescription: 6-Pin Plastic Small Outline No-Lead, 1 x 1.45 x 0.6 mm Body, 0.5 mm Pitch; Supplier 1: Digi-Key; Supplier Part Number 1: TPS62236DRYR-ND; Supplier 2: Mouser; Supplier Part Number 2: 595-TPS62236DRYR; Eco-Plan: Green (RoHS & no Sb/Br); Topology: Buck; Vout(Max)(V): 1.85; Vout(Min)(V): 1.85; Mounting Technology: Surface Mount; ComponentLink1Description: Datasheet; ComponentLink1URL: http://www.ti.com/general/docs/lit/getliterature.tsp?genericPartNumber=TPS62236&fileType=pdf; ComponentLink2Description: Package Specification; ComponentLink2URL: http://www.ti.com/litv/pdf/mpds221e; ComponentLink3Description: URL Link1; ComponentLink3URL: Samples URL:http://www.ti.com/product/tps62236#samples
footprint DRY6 (PSON, 6-Leads, Body 1x1.45mm, Pitch 0.5mm, TI Recommended)
pins: 1 MODE (in) "MODE pin = high forces the device to operate in PWM mode. Mode = low enables the Power Save Mode with automatic transition from PFM (Pulse frequency mode) to PWM (pulse width modulation) mode.", 2 SW (power) "This is the switch pin and is connected to the internal MOSFET switches. Connect the inductor to this terminal", 3 VIN (power) "VIN power supply pin.", 4 GND (power) "GND supply pin", 5 EN (in) "This is the enable pin of the device. Pulling this pin to low forces the device into shutdown mode. Pulling this pin to high enables the device. This pin must be terminated.", 6 FB (in) "Feedback Pin for the internal regulation loop. Connect this pin directly to the output capacitor"

## TPS62236DRYT
designator U?
Buck Step Down Regulator with 2.05 to 6 V Input and 1.85 V Output, -40 to 85 degC, 6-Pin SON (DRY), Green (RoHS & no Sb/Br); Manufacturer: Texas Instruments; PartNumber: TPS62236DRYT; Duty Cycle(Max)(%): 100; Iout(Max)(A): 0.5; Iq(Typ)(mA): 0.022; Preset Vout(V): 1.85; Rating: Catalog; Regulated Outputs(#): 1; SubFamily: Step-Down Regulator; Switch Current Limit(Typ)(A): 0.84; Vin(Max)(V): 6; Vin(Min)(V): 2.05; DatasheetVersion: SLVS941E; PackageVersion: revF, Dec-2011; PackageReference: DRY6; PackageDescription: 6-Pin Plastic Small Outline No-Lead, 1 x 1.45 x 0.6 mm Body, 0.5 mm Pitch; Supplier 1: Digi-Key; Supplier Part Number 1: 296-25629-2-ND; Supplier 2: Digi-Key; Supplier Part Number 2: 296-25629-1-ND; Supplier 3: Digi-Key; Supplier Part Number 3: 296-25629-6-ND; Supplier 4: Newark; Supplier Part Number 4: 64R0766; Supplier 5: Mouser; Supplier Part Number 5: 595-TPS62236DRYT; Eco-Plan: Green (RoHS & no Sb/Br); Topology: Buck; Vout(Max)(V): 1.85; Vout(Min)(V): 1.85; Mounting Technology: Surface Mount; ComponentLink1Description: Datasheet; ComponentLink1URL: http://www.ti.com/general/docs/lit/getliterature.tsp?genericPartNumber=TPS62236&fileType=pdf; ComponentLink2Description: Package Specification; ComponentLink2URL: http://www.ti.com/litv/pdf/mpds221e; ComponentLink3Description: URL Link1; ComponentLink3URL: Samples URL:http://www.ti.com/product/tps54611#samples
footprint DRY6 (PSON, 6-Leads, Body 1x1.45mm, Pitch 0.5mm, TI Recommended)
pins: 1 MODE (in) "MODE pin = high forces the device to operate in PWM mode. Mode = low enables the Power Save Mode with automatic transition from PFM (Pulse frequency mode) to PWM (pulse width modulation) mode.", 2 SW (power) "This is the switch pin and is connected to the internal MOSFET switches. Connect the inductor to this terminal", 3 VIN (power) "VIN power supply pin.", 4 GND (power) "GND supply pin", 5 EN (in) "This is the enable pin of the device. Pulling this pin to low forces the device into shutdown mode. Pulling this pin to high enables the device. This pin must be terminated.", 6 FB (in) "Feedback Pin for the internal regulation loop. Connect this pin directly to the output capacitor"

## TPS62237DRYR
designator U?
Buck Step Down Regulator with 2.05 to 6 V Input and 3.3 V Output, -40 to 85 degC, 6-Pin SON (DRY), Green (RoHS & no Sb/Br); Manufacturer: Texas Instruments; PartNumber: TPS62237DRYR; Duty Cycle(Max)(%): 100; Iout(Max)(A): 0.5; Iq(Typ)(mA): 0.022; Preset Vout(V): 3.3; Rating: Catalog; Regulated Outputs(#): 1; SubFamily: Step-Down Regulator; Switch Current Limit(Typ)(A): 0.84; Synchronous Rectification: TRUE; Vin(Max)(V): 6; Vin(Min)(V): 2.05; DatasheetVersion: SLVS941E; PackageVersion: revF, Dec-2011; PackageReference: DRY6; PackageDescription: 6-Pin Plastic Small Outline No-Lead, 1 x 1.45 x 0.6 mm Body, 0.5 mm Pitch; Supplier 1: Digi-Key; Supplier Part Number 1: TPS62237DRYR-ND; Supplier 2: Newark; Supplier Part Number 2: 64R0767; Supplier 3: Mouser; Supplier Part Number 3: 595-TPS62237DRYR; Eco-Plan: Green (RoHS & no Sb/Br); Topology: Buck; Vout(Max)(V): 3.3; Vout(Min)(V): 3.3; Mounting Technology: Surface Mount; ComponentLink1Description: Datasheet; ComponentLink1URL: http://www.ti.com/general/docs/lit/getliterature.tsp?genericPartNumber=TPS62237&fileType=pdf; ComponentLink2Description: Package Specification; ComponentLink2URL: http://www.ti.com/litv/pdf/mpds221e; ComponentLink3Description: URL Link1; ComponentLink3URL: Samples URL:http://www.ti.com/product/tps62237#samples
footprint DRY6 (PSON, 6-Leads, Body 1x1.45mm, Pitch 0.5mm, TI Recommended)
pins: 1 MODE (in) "MODE pin = high forces the device to operate in PWM mode. Mode = low enables the Power Save Mode with automatic transition from PFM (Pulse frequency mode) to PWM (pulse width modulation) mode.", 2 SW (power) "This is the switch pin and is connected to the internal MOSFET switches. Connect the inductor to this terminal", 3 VIN (power) "VIN power supply pin.", 4 GND (power) "GND supply pin", 5 EN (in) "This is the enable pin of the device. Pulling this pin to low forces the device into shutdown mode. Pulling this pin to high enables the device. This pin must be terminated.", 6 FB (in) "Feedback Pin for the internal regulation loop. Connect this pin directly to the output capacitor."

## TPS62237DRYT
designator U?
Buck Step Down Regulator with 2.05 to 6 V Input and 3.3 V Output, -40 to 85 degC, 6-Pin SON (DRY), Green (RoHS & no Sb/Br); Manufacturer: Texas Instruments; PartNumber: TPS62237DRYT; Duty Cycle(Max)(%): 100; Iout(Max)(A): 0.5; Iq(Typ)(mA): 0.022; Preset Vout(V): 3.3; Rating: Catalog; Regulated Outputs(#): 1; SubFamily: Step-Down Regulator; Switch Current Limit(Typ)(A): 0.84; Synchronous Rectification: TRUE; Vin(Max)(V): 6; Vin(Min)(V): 2.05; DatasheetVersion: SLVS941E; PackageVersion: revF, Dec-2011; PackageReference: DRY6; PackageDescription: 6-Pin Plastic Small Outline No-Lead, 1 x 1.45 x 0.6 mm Body, 0.5 mm Pitch; Supplier 1: Digi-Key; Supplier Part Number 1: 296-25630-2-ND; Supplier 2: Digi-Key; Supplier Part Number 2: 296-25630-1-ND; Supplier 3: Digi-Key; Supplier Part Number 3: 296-25630-6-ND; Supplier 4: Newark; Supplier Part Number 4: 64R0768; Supplier 5: Mouser; Supplier Part Number 5: 595-TPS62237DRYT; Eco-Plan: Green (RoHS & no Sb/Br); Topology: Buck; Vout(Max)(V): 3.3; Vout(Min)(V): 3.3; Mounting Technology: Surface Mount; ComponentLink1Description: Datasheet; ComponentLink1URL: http://www.ti.com/general/docs/lit/getliterature.tsp?genericPartNumber=TPS62237&fileType=pdf; ComponentLink2Description: Package Specification; ComponentLink2URL: http://www.ti.com/litv/pdf/mpds221e; ComponentLink3Description: URL Link1; ComponentLink3URL: Samples URL:http://www.ti.com/product/tps62237#samples
footprint DRY6 (PSON, 6-Leads, Body 1x1.45mm, Pitch 0.5mm, TI Recommended)
pins: 1 MODE (in) "MODE pin = high forces the device to operate in PWM mode. Mode = low enables the Power Save Mode with automatic transition from PFM (Pulse frequency mode) to PWM (pulse width modulation) mode.", 2 SW (power) "This is the switch pin and is connected to the internal MOSFET switches. Connect the inductor to this terminal", 3 VIN (power) "VIN power supply pin.", 4 GND (power) "GND supply pin", 5 EN (in) "This is the enable pin of the device. Pulling this pin to low forces the device into shutdown mode. Pulling this pin to high enables the device. This pin must be terminated.", 6 FB (in) "Feedback Pin for the internal regulation loop. Connect this pin directly to the output capacitor."